# EAGLE library part DEV_GRID (library grid_component)
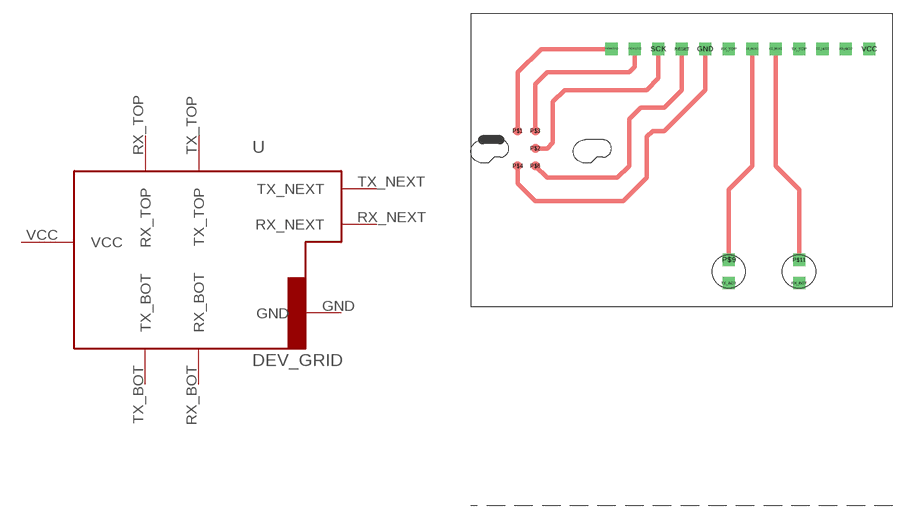
[diagram p0: symbol with the pads of PCB_LAY; footprint PCB_LAY]

Designator prefix -

## DEV_GRID  [PCB_LAY]
GND  GND  pwr
RX_BOT  RX_BOT  in
RX_NEXT  RX_NEXT
RX_TOP  RX_TOP  in
TX_BOT  TX_BOT  out
TX_NEXT  TX_NEXT
TX_TOP  TX_TOP  out
VCC  VCC  pwr

## Footprint PCB_LAY (pad centres in mm)
drill 0.8 square: GND 0,0; P$9 2.54,-22.86; P$11 10.16,-22.86; PB1/MOSI/RX -7.62,0; PB2/MISO/TX -10.16,0; RESET -2.54,0; RX_BOT 10.16,-25.4; RX_BOT1 7.62,0; RX_NEXT 15.24,0; RX_TOP 2.54,0; SCK -5.08,0; TX_BOT 2.54,-25.4; TX_BOT1 5.08,0; TX_NEXT 12.7,0; TX_TOP 10.16,0; VCC 17.78,0
smd 1 x 1: P$1 -20.32,-8.89; P$2 -18.415,-10.795; P$3 -18.415,-8.89; P$4 -20.32,-12.7; P$6 -18.415,-12.7